# Altium footprint library Hub.PcbLib: 1 footprints
Each footprint in its own frame and in the unit in brackets; x right, y up, seen from the top. Pads: shape width x height; smd on the part's side, far side on the other; paste and mask are expansions set on the pad; w line width, h text height; cw(c..) or ccw(c..) is an arc to the next point about the centre after c.
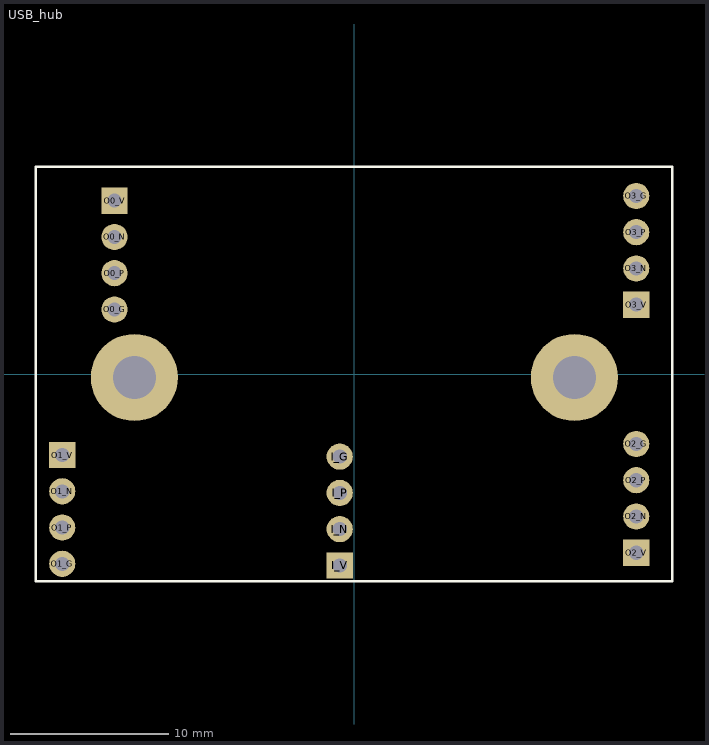
[diagram p0: the footprint, top view; thin cyan lines are the x and y axes]

## USB_hub [mil]
pads (22):
  round 65 hole 35: I_G(-35.43,-205.2) I_N(-35.43,-385.2) I_P(-35.43,-295.2) O0_G(-594.49,160.31) O0_N(-594.49,340.31) O0_P(-594.49,250.31) O1_G(-724.41,-471.26) O1_N(-724.41,-291.26) O1_P(-724.41,-381.26) O2_G(700.79,-173.7) O2_N(700.79,-353.7) O2_P(700.79,-263.7) O3_G(700.79,442.13) O3_N(700.79,262.13) O3_P(700.79,352.13)
  rect 65x65 hole 35: I_V(-35.43,-475.2) O0_V(-594.49,430.31) O1_V(-724.41,-201.26) O2_V(700.79,-443.7) O3_V(700.79,172.13)
  round 216.54 hole 106.3: ""(-545.28,-8.66) ""(547.24,-8.66)
Top Overlay:
  lines w6: -790,-515 -790,515 790,515 790,-515 -790,-515
3D body: height 555.12, standoff -39.37, extent -1030,-605 795.2,519.02